# Altium footprint library 524352871.PcbLib: 1 footprints
Each footprint in its own frame and in the unit in brackets; x right, y up, seen from the top. Pads: shape width x height; smd on the part's side, far side on the other; paste and mask are expansions set on the pad; w line width, h text height; cw(c..) or ccw(c..) is an arc to the next point about the centre after c.
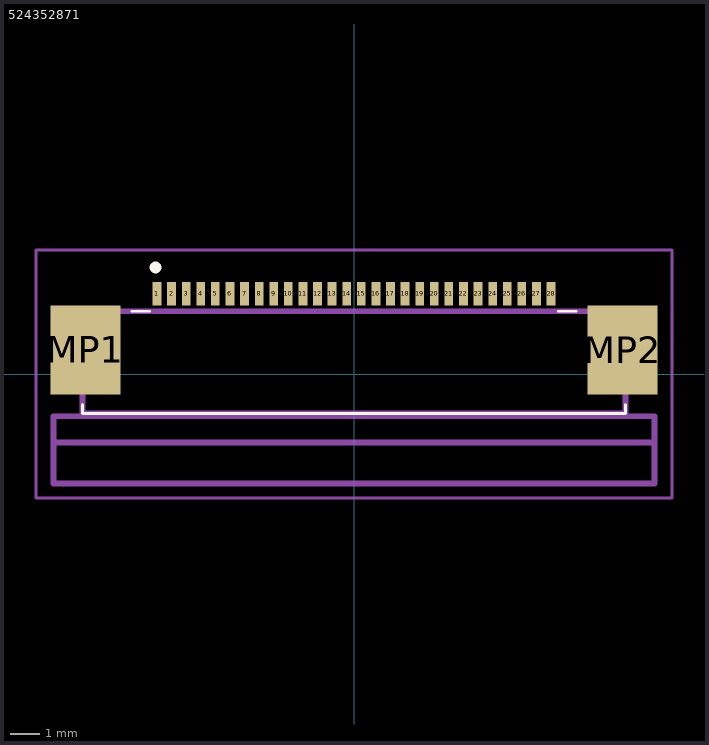
[diagram p0: the footprint, top view; thin cyan lines are the x and y axes]

## 524352871 [mm]
pads (30):
  rect 0.3x0.8 smd: 1(-6.75,2.75) 2(-6.25,2.75) 3(-5.75,2.75) 4(-5.25,2.75) 5(-4.75,2.75) 6(-4.25,2.75) 7(-3.75,2.75) 8(-3.25,2.75) 9(-2.75,2.75) 10(-2.25,2.75) 11(-1.75,2.75) 12(-1.25,2.75) 13(-0.75,2.75) 14(-0.25,2.75) 15(0.25,2.75) 16(0.75,2.75) 17(1.25,2.75) 18(1.75,2.75) 19(2.25,2.75) 20(2.75,2.75) 21(3.25,2.75) 22(3.75,2.75) 23(4.25,2.75) 24(4.75,2.75) 25(5.25,2.75) 26(5.75,2.75) 27(6.25,2.75) 28(6.75,2.75)
  rect 2.4x3.05 smd: MP1(-9.2,0.825) MP2(9.2,0.825)
Top Overlay:
  lines w0.1: -9.3,-1.05 -9.3,-1.35 9.3,-1.35 9.3,-1.05 ; -7.6,2.15 -7,2.15 ; 7,2.15 7.6,2.15
  lines w0.2: -6.9,3.65 -6.9,3.65 ; -6.9,3.65 cw(c-6.8,3.65) -6.7,3.65 ; -6.9,3.65 ccw(c-6.8,3.65) -6.7,3.65 ; -6.7,3.65 -6.7,3.65
Mechanical 15:
  lines w0.2: -10.3,-2.35 10.3,-2.35 ; -10.3,-3.75 10.3,-3.75 10.3,-1.45 -10.3,-1.45 -10.3,-3.75 ; -9.3,-1.35 9.3,-1.35 9.3,2.15 -9.3,2.15 -9.3,-1.35
Mechanical 20:
  lines w0.1: -10.9,-4.25 10.9,-4.25 10.9,4.25 -10.9,4.25 -10.9,-4.25